# Altium schematic symbol library 692141030100.SchLib: 1 symbol
Pins are listed as number, name and electrical type; pins without a type are passive.

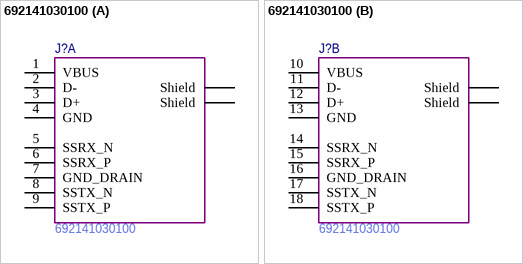
[diagram p0: symbol 692141030100]

## 692141030100
designator J?  Manufacture Part Number: 692141030100
part A pins: 1 VBUS, 2 D-, 3 D+, 4 GND, 5 SSRX_N, 6 SSRX_P, 7 GND_DRAIN, 8 SSTX_N, 9 SSTX_P, MH1 Shield, MH3 Shield
part B pins: 10 VBUS, 11 D-, 12 D+, 13 GND, 14 SSRX_N, 15 SSRX_P, 16 GND_DRAIN, 17 SSTX_N, 18 SSTX_P, MH2 Shield, MH4 Shield